# EAGLE library part MS5607_BREAKOUT (library MITCH Shield)
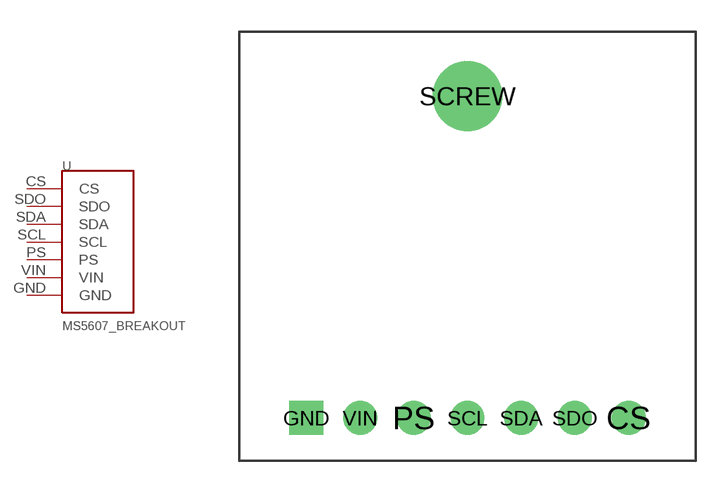
[diagram p3: symbol with the pads of MS5607_BREAKOUT; footprint MS5607_BREAKOUT]

Designator prefix -

## MS5607_BREAKOUT  [MS5607_BREAKOUT]
CS  CS
GND  GND
PS  PS
SCL  SCL
SDA  SDA
SDO  SDO
VIN  VIN

## Footprint MS5607_BREAKOUT (pad centres in mm)
drill 1.07: CS 18.415,2.032; PS 8.255,2.032; SCL 10.795,2.032; SDA 13.335,2.032; SDO 15.875,2.032; VIN 5.715,2.032
drill 1.07 square: GND 3.175,2.032
drill 2.286: SCREW 10.795,17.272